# Altium footprint library Mount_Antenna.PcbLib: 22 footprints (part 1 of 2)
Each footprint in its own frame and in the unit in brackets; x right, y up, seen from the top. Pads: shape width x height; smd on the part's side, far side on the other; paste and mask are expansions set on the pad; w line width, h text height; cw(c..) or ccw(c..) is an arc to the next point about the centre after c.
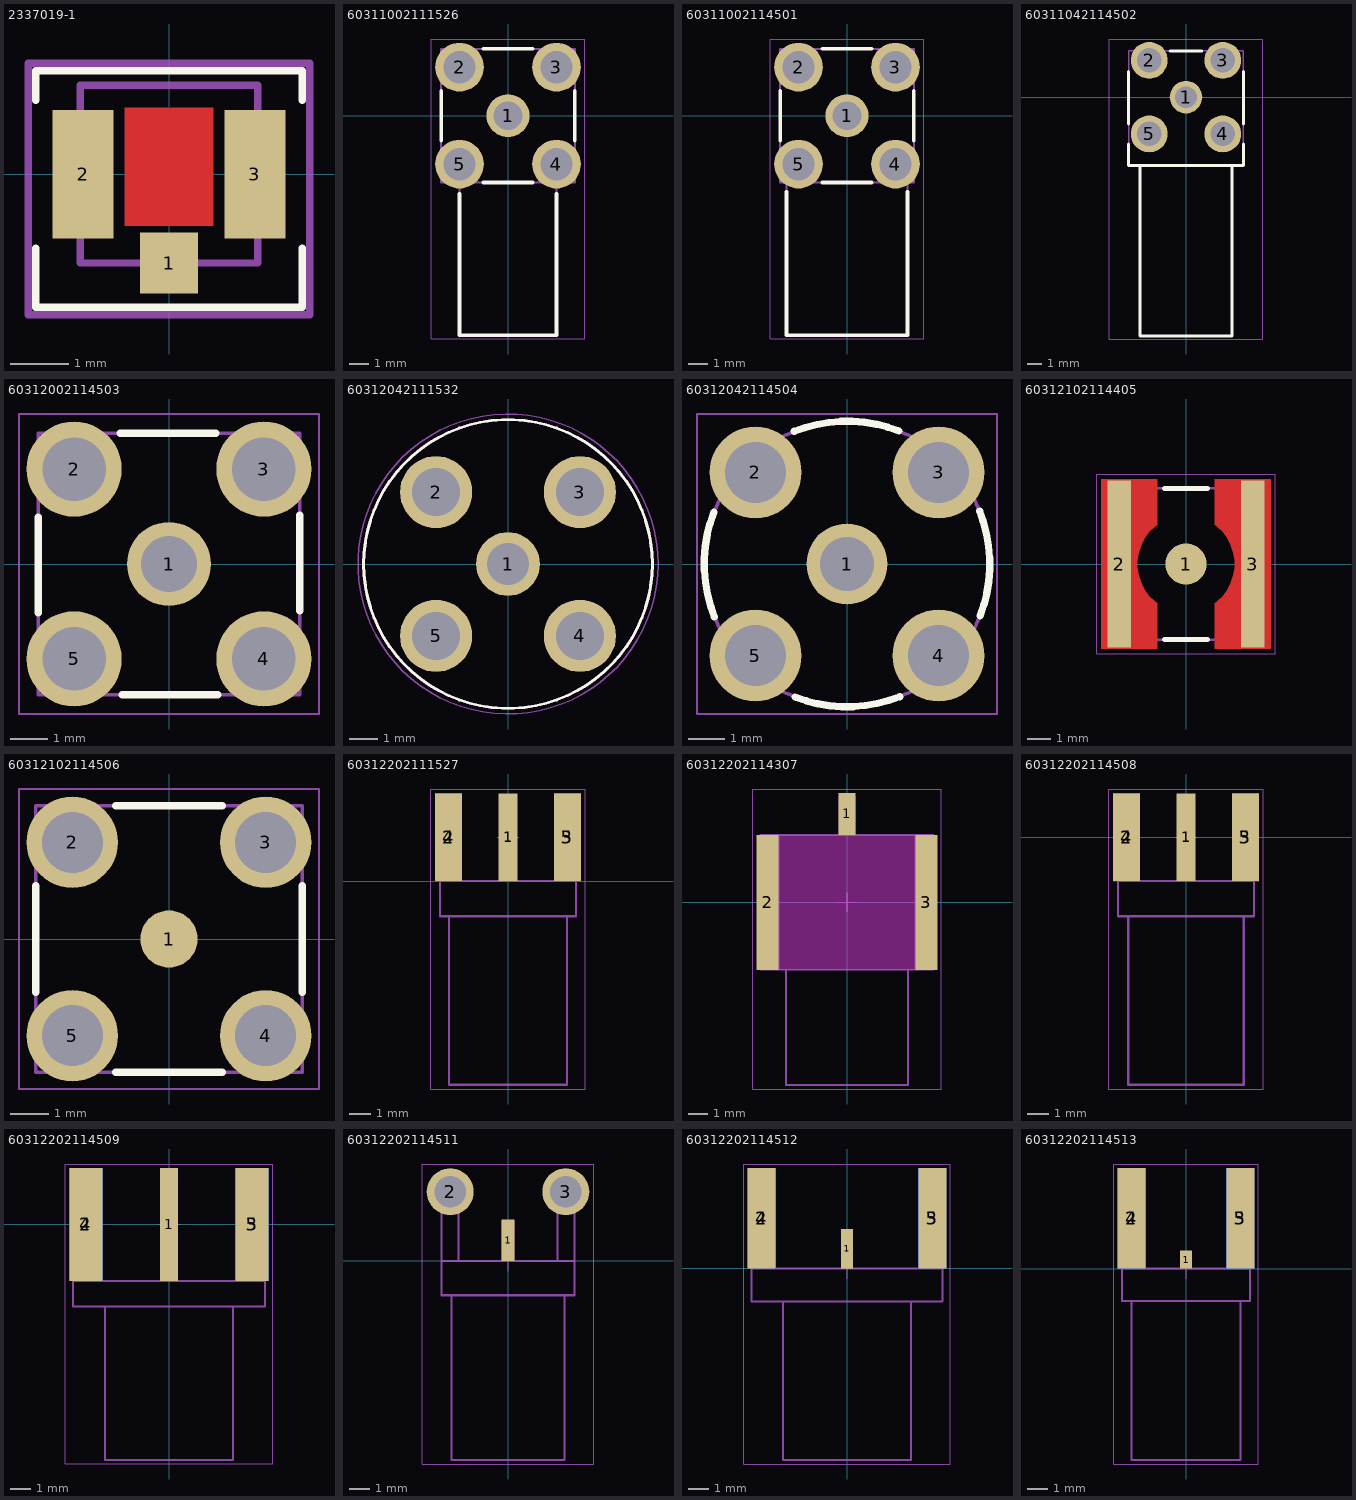
[diagram p0: the footprints below, top view; thin cyan lines are the x and y axes]

## 2337019-1 [mm]
pads (3):
  rect 1x1.05 smd: 1(0,-1.525)
  rect 1.05x2.2 smd: 2(-1.475,0) 3(1.475,0)
Top Layer:
  pour cut-out: -0.762,1.143 0.762,1.143 0.762,-0.889 -0.762,-0.889
Top Overlay:
  lines w0.127: -2.286,-1.27 -2.286,-2.286 2.286,-2.286 2.286,-1.27 ; -2.286,1.27 -2.286,1.778 2.286,1.778 2.286,1.27
Mechanical 13:
  lines w0.127: -1.524,-1.524 1.524,-1.524 1.524,1.524 -1.524,1.524 -1.524,-1.524
Mechanical 15:
  lines w0.127: -2.413,-2.413 -2.413,1.905 2.413,1.905 2.413,-2.413 -2.413,-2.413
3D body "2337019-1.stp": height 1.25, standoff 0, extent -1.515,-1.537 1.485,1.563

## 60311002111526 [mm] "SMA PCB THT Jack"
height 9.86
pads (5):
  round 2.25 hole 1.5: 1(0,0)
  round 2.55 hole 1.7: 2(-2.54,2.54) 3(2.54,2.54) 4(2.54,-2.54) 5(-2.54,-2.54)
Top Overlay:
  lines w0.2: -3.5,-1.3 -3.5,1.3 ; -2.54,-4.1 -2.54,-11.5 2.54,-11.5 2.54,-4.1 ; -1.3,-3.5 1.3,-3.5 ; -1.3,3.5 1.3,3.5 ; 3.5,-1.3 3.5,1.3
Mechanical 13:
  lines w0.1: -2.54,-3.5 -2.54,-11.5 2.54,-11.5 2.54,-3.5 ; -3.5,-3.5 -3.5,3.5 3.5,3.5 3.5,-3.5 -3.5,-3.5
Mechanical 15:
  lines w0.05: -0.5,0 0.5,0 ; 0,-0.5 0,0.5 ; -4.015,-11.7 4.015,-11.7 4.015,4.015 -4.015,4.015 -4.015,-11.7
3D body "60311002111526.stp": height 9.86, standoff -3.94, extent -3.5,-11.5 3.5,3.5

## 60311002114501 [mm] "SMA PCB THT Jack Right Angle"
height 9.66
pads (5):
  round 2.25 hole 1.5: 1(0,0)
  round 2.55 hole 1.7: 2(-2.54,2.54) 3(2.54,2.54) 4(2.54,-2.54) 5(-2.54,-2.54)
Top Overlay:
  lines w0.2: -3.5,-1.3 -3.5,1.3 ; -3.175,-4 -3.175,-11.5 3.175,-11.5 3.175,-4 ; -1.3,-3.5 1.3,-3.5 ; -1.3,3.5 1.3,3.5 ; 3.5,-1.3 3.5,1.3
Mechanical 13:
  lines w0.1: -3.175,-3.5 -3.175,-11.5 3.175,-11.5 3.175,-3.5 ; -3.5,-3.5 -3.5,3.5 3.5,3.5 3.5,-3.5 -3.5,-3.5
Mechanical 15:
  lines w0.05: -0.5,0 0.5,0 ; 0,-0.5 0,0.5 ; -4.015,-11.7 4.015,-11.7 4.015,4.015 -4.015,4.015 -4.015,-11.7
3D body "60311002114501.stp": height 9.66, standoff -3.94, extent -3.5,-11.502 3.5,3.5

## 60311042114502 [mm] "SMA PCB THT Jack Right Angle  Rear Mount Bulkhead"
height 10.46
pads (5):
  round 2.25 hole 1.5: 1(0,0)
  round 2.55 hole 1.7: 2(-2.54,2.54) 3(2.54,2.54) 4(2.54,-2.54) 5(-2.54,-2.54)
Top Overlay:
  lines w0.2: -3.96,-3.23 -3.96,-4.73 3.96,-4.73 3.96,-3.23 ; -3.96,-1.85 -3.96,1.77 ; -3.175,-4.73 -3.175,-16.5 3.175,-16.5 3.175,-4.73 ; -1.11,3.19 1.09,3.19 ; 3.96,-1.85 3.96,1.77
Mechanical 13:
  lines w0.1: -3.175,-4.73 -3.175,-16.5 3.175,-16.5 3.175,-4.73 ; -3.96,-4.73 3.96,-4.73 3.96,3.19 -3.96,3.19 -3.96,-4.73
Mechanical 15:
  lines w0.05: -0.5,0 0.5,0 ; 0,-0.5 0,0.5 ; -5.3,-16.7 -5.3,4.015 5.3,4.015 5.3,-16.7 -5.3,-16.7
3D body "60311042114502.stp": height 12.16, standoff -3.94, extent -5.1,-16.5 5.1,3.19

## 60312002114503 [mm] "SMA PCB THT Jack Straight"
height 9.56
pads (5):
  round 2.25 hole 1.5: 1(0,0)
  round 2.55 hole 1.7: 2(-2.54,2.54) 3(2.54,2.54) 4(2.54,-2.54) 5(-2.54,-2.54)
Top Overlay:
  lines w0.2: -3.5,-1.3 -3.5,1.25 ; -1.3,3.5 1.25,3.5 ; -1.25,-3.5 1.3,-3.5 ; 3.5,-1.25 3.5,1.3
Mechanical 13:
  lines w0.1: -3.5,-3.5 -3.5,3.5 3.5,3.5 3.5,-3.5 -3.5,-3.5
Mechanical 15:
  lines w0.05: -0.5,0 0.5,0 ; 0,-0.5 0,0.5 ; -4.015,-4.015 4.015,-4.015 4.015,4.015 -4.015,4.015 -4.015,-4.015
3D body "60312002114503.stp": height 9.56, standoff -3.94, extent -3.5,-3.5 3.5,3.5

## 60312042111532 [mm] "SMA PCB THT Jack"
height 12.65
pads (5):
  round 2.25 hole 1.5: 1(0,0)
  round 2.55 hole 1.7: 2(-2.54,2.54) 3(2.54,2.54) 4(2.54,-2.54) 5(-2.54,-2.54)
Top Overlay:
  circle w0.1: c0,0 r5.1
Mechanical 13:
  circle w0.1: c0,0 r5.1
Mechanical 15:
  circle w0.05: c0,0 r5.3
  lines w0.05: -0.5,0 0.5,0 ; 0,-0.5 0,0.5
3D body "60312042111532.stp": height 12.64, standoff -3.95, extent -7.212,-7.212 7.212,7.212

## 60312042114504 [mm] "SMA PCB THT Jack Straight Rear  Mount Bulkhead"
height 20.83
pads (5):
  round 2.25 hole 1.5: 1(0,0)
  round 2.55 hole 1.7: 2(-2.54,2.54) 3(2.54,2.54) 4(2.54,-2.54) 5(-2.54,-2.54)
Top Overlay:
  lines w0.2: -3.687,1.445 ccw(c0,0) -3.68,-1.462 ; -1.462,3.68 cw(c0,0) 1.445,3.687 ; -1.445,-3.687 ccw(c0,0) 1.462,-3.68 ; 3.68,1.462 cw(c0,0) 3.687,-1.445
Mechanical 13:
  circle w0.1: c0,0 r3.96
Mechanical 15:
  lines w0.05: -0.5,0 0.5,0 ; 0,-0.5 0,0.5 ; -4.16,-4.16 4.16,-4.16 4.16,4.16 -4.16,4.16 -4.16,-4.16
3D body "60312042114504.stp": height 20.87, standoff -3.9, extent -5.598,-5.598 5.6,5.6

## 60312102114405 [mm] "SMA PCB SMT Jack Straight"
height 8.84
pads (3):
  round 1.73 smd: 1(0,0)
  rect 1x7 smd: 2(-2.8,0) 3(2.8,0)
Top Layer:
  region: -3.555,-3.56 -1.205,-3.56 -1.205,-1.652 -1.331,-1.553 -1.557,-1.326 -1.745,-1.067 -1.89,-0.781 -1.989,-0.477 -2.039,-0.16 -2.039,0.16 -1.989,0.477 -1.89,0.781 -1.745,1.067 -1.557,1.326 -1.331,1.553 -1.205,1.652 -1.205,3.56 -3.555,3.56
  region: 3.555,-3.56 1.205,-3.56 1.205,-1.652 1.331,-1.553 1.557,-1.326 1.745,-1.067 1.89,-0.781 1.989,-0.477 2.039,-0.16 2.039,0.16 1.989,0.477 1.89,0.781 1.745,1.067 1.557,1.326 1.331,1.553 1.205,1.652 1.205,3.56 3.555,3.56
Top Overlay:
  lines w0.2: -0.9,-3.175 0.9,-3.175 ; -0.9,3.175 0.9,3.175
Mechanical 13:
  lines w0.1: -3.175,-3.175 -3.175,3.175 3.175,3.175 3.175,-3.175 -3.175,-3.175
Mechanical 15:
  lines w0.05: -0.5,0 0.5,0 ; 0,-0.5 0,0.5 ; -3.755,-3.76 -3.755,3.76 3.755,3.76 3.755,-3.76 -3.755,-3.76
3D body "60312102114405.stp": height 8.84, standoff 0, extent -3.175,-3.175 3.175,3.175

## 60312102114506 [mm] "SMA PCB SMT Jack Straight with  THT Grounding Pins"
height 9.56
pads (5):
  round 1.5 smd: 1(0,0)
  round 2.4 hole 1.6: 2(-2.54,2.54) 3(2.54,2.54) 4(2.54,-2.54) 5(-2.54,-2.54)
Top Overlay:
  lines w0.2: -3.5,-1.4 -3.5,1.4 ; -1.4,-3.5 1.4,-3.5 ; -1.4,3.5 1.4,3.5 ; 3.5,-1.4 3.5,1.4
Mechanical 13:
  lines w0.1: -3.5,-3.5 3.5,-3.5 3.5,3.5 -3.5,3.5 -3.5,-3.5
Mechanical 15:
  lines w0.05: -0.5,0 0.5,0 ; 0,-0.5 0,0.5 ; -3.94,-3.94 -3.94,3.94 3.94,3.94 3.94,-3.94 -3.94,-3.94
3D body "60312102114506.stp": height 9.56, standoff -3.94, extent -3.5,-3.5 3.5,3.5

## 60312202111527 [mm] "SMA PCB End Launch  Jack"
height 3.175
pads (5):
  rect 0.9x4.1 smd: 1(0,2.05)
  rect 1.25x4.1 smd: 2(-2.775,2.05) 3(2.775,2.05)
  rect 1.25x4.1 smd far side: 4(-2.775,2.05) 5(2.775,2.05)
Mechanical 2:
  lines w0.1: -3.175,0 3.175,0
  text "PCB END" at -2.2,-1.25 h0.76
Mechanical 13:
  lines w0.1: -2.75,-1.65 -2.75,-9.52 2.75,-9.52 2.75,-1.65 ; -3.175,-1.65 3.175,-1.65 3.175,3.81 2.365,3.81 2.365,0 0.38,0 0.38,3.81 -0.38,3.81 -0.38,0 -2.365,0 -2.365,3.81 -3.175,3.81 -3.175,-1.65
Mechanical 15:
  lines w0.05: -0.5,2.05 0.5,2.05 ; 0,1.55 0,2.55 ; -3.6,-9.72 3.6,-9.72 3.6,4.3 -3.6,4.3 -3.6,-9.72
3D body "60312202111527.stp": height 3.55, standoff -2.8, extent -3.175,-9.52 3.175,3.81

## 60312202114307 [mm] "SMA PCB End Launch Jack SMT  Edge Card for 1.6mm PCB"
height 4
pads (3):
  rect 0.9x2.2 smd: 1(0,4.6)
  rect 1.15x7 smd: 2(-4.125,0) 3(4.125,0)
Keep-Out Layer:
  board cut-out: -3.55,-3.5 -3.55,3.5 3.55,3.5 3.55,-3.5
Mechanical 2:
  lines w0.1: -3.55,-3.5 3.55,-3.5 3.55,3.5 -3.55,3.5 -3.55,-3.5
  text "PCB Thickness 1.6m max." at -4,-10.2 h0.8
  text "PCB Cutout Area" at -2.7,-0.2 h0.8
  text "PCB End" at -1.7,-4.2 h0.8
Mechanical 13:
  lines w0.1: -4.5,-3.5 -4.5,3.5 -0.38,3.5 -0.38,5.5 0.38,5.5 0.38,3.5 4.5,3.5 4.5,-3.5 3.175,-3.5 3.175,-9.5 -3.175,-9.5 -3.175,-3.5 -4.5,-3.5
Mechanical 15:
  lines w0.05: -0.5,0 0.5,0 ; 0,-0.5 0,0.5 ; -4.9,-9.7 4.9,-9.7 4.9,5.9 -4.9,5.9 -4.9,-9.7
3D body "60312202114307.stp": height 4, standoff -3, extent -4.5,-9.5 4.5,5.5

## 60312202114508 [mm] "SMA PCB End Launch Jack Round  Post for 1.1mm PCB"
height 6.35
pads (5):
  rect 0.9x4.1 smd: 1(0,0)
  rect 1.25x4.1 smd: 2(-2.775,0) 3(2.775,0)
  rect 1.25x4.1 smd far side: 4(-2.775,0) 5(2.775,0)
Mechanical 2:
  lines w0.1: -3.175,-2.05 3.175,-2.05
  text "PCB Thickness 1.1mm" at -3.4,-12.4 h0.8
  text "PCB End" at -1.5,-2.8 h0.8
Mechanical 13:
  lines w0.1: -2.7,-3.7 -2.7,-11.57 2.7,-11.57 2.7,-3.7 ; -3.175,-3.7 -3.175,1.76 -2.365,1.76 -2.365,-2.05 -0.38,-2.05 -0.38,1.76 0.38,1.76 0.38,-2.05 2.365,-2.05 2.365,1.76 3.175,1.76 3.175,-3.7 -3.175,-3.7
Mechanical 15:
  lines w0.05: -0.5,0 0.5,0 ; 0,-0.5 0,0.5 ; -3.6,-11.77 -3.6,2.25 3.6,2.25 3.6,-11.77 -3.6,-11.77
3D body "60312202114508.stp": height 3.57, standoff -2.78, extent -3.175,-11.57 3.175,1.76

## 60312202114509 [mm] "SMA PCB End Launch Jack Round  Post for 1.6mm PCB"
height 7.92
pads (5):
  rect 0.9x5.6 smd: 1(0,0)
  rect 1.65x5.6 smd: 2(-4.125,0) 3(4.125,0)
  rect 1.65x5.6 smd far side: 4(-4.125,0) 5(4.125,0)
Mechanical 2:
  lines w0.1: -4.76,-2.8 4.76,-2.8
  text "PCB End" at -1.5,-3.5 h0.8
  text "PCB Thickness 1.6mm" at -3.4,-12.4 h0.8
Mechanical 13:
  lines w0.1: -3.175,-4.07 -3.175,-11.69 3.175,-11.69 3.175,-4.07 ; 3.49,2.58 3.49,-2.8 0.38,-2.8 0.38,2.58 -0.38,2.58 -0.38,-2.8 -3.49,-2.8 -3.49,2.58 -4.76,2.58 -4.76,-4.07 4.76,-4.07 4.76,2.58 ; 3.49,2.58 4.76,2.58
Mechanical 15:
  lines w0.05: -0.5,0 0.5,0 ; 0,-0.5 0,0.5 ; -5.15,-11.89 5.15,-11.89 5.15,3 -5.15,3 -5.15,-11.89
3D body "60312202114509.stp": height 4.36, standoff -3.56, extent -4.76,-11.69 4.76,2.58

## 60312202114511 [mm] "SMA PCB End Launch Jack Flat Tab  with THT Grounding Pins for 2.8mm  Max. PCB"
height 6.35
pads (3):
  rect 0.61x1.97 smd: 1(0,0.985)
  round 2.25 hole 1.52: 2(-2.77,3.31) 3(2.77,3.31)
Mechanical 2:
  lines w0.1: -3.175,0 3.175,0
  text "PCB End" at -1.4,-0.7 h0.8
  text "PCB Thickness 2.8mm max." at -4.2,-10.3 h0.8
Mechanical 13:
  lines w0.1: -2.7,-1.65 -2.7,-9.53 2.7,-9.53 2.7,-1.65 ; -3.175,-1.65 3.175,-1.65 3.175,3.81 2.365,3.81 2.365,0 0.255,0 0.255,1.9 -0.255,1.9 -0.255,0 -2.365,0 -2.365,3.81 -3.175,3.81 -3.175,-1.65
Mechanical 15:
  lines w0.05: -0.5,0 0.5,0 ; 0,-0.5 0,0.5 ; -4.095,-9.73 4.095,-9.73 4.095,4.635 -4.095,4.635 -4.095,-9.73
3D body "60312202114511.stp": height 3.32, standoff -3.03, extent -3.175,-9.53 3.175,3.81

## 60312202114512 [mm] "SMA PCB End Launch Jack Flat  Tab for 1.1mm PCB"
height 7.92
pads (5):
  rect 0.61x1.97 smd: 1(0,0.985)
  rect 1.4x5 smd: 2(-4.25,2.5) 3(4.25,2.5)
  rect 1.4x5 smd far side: 4(-4.25,2.5) 5(4.25,2.5)
Mechanical 2:
  lines w0.1: -4.76,0 4.76,0
  text "PCB End" at -1.5,-0.7 h0.8
  text "PCB Thickness 1.1mm" at -3.7,-10.2 h0.8
Mechanical 13:
  lines w0.1: -3.175,-1.64 -3.175,-9.53 3.175,-9.53 3.175,-1.64 ; -4.76,-1.64 -4.76,4.76 -3.74,4.76 -3.74,0 -0.255,0 -0.255,1.9 0.255,1.9 0.255,0 3.74,0 3.74,4.76 4.76,4.76 4.76,-1.64 -4.76,-1.64
Mechanical 15:
  lines w0.05: -0.5,0 0.5,0 ; 0,-0.5 0,0.5 ; -5.15,-9.73 -5.15,5.2 5.15,5.2 5.15,-9.73 -5.15,-9.73
3D body "60312202114512.stp": height 4.11, standoff -3.82, extent -4.76,-9.53 4.76,4.76

## 60312202114513 [mm] "SMA PCB End Launch Jack Flat Tab  6.35SQ Flange for 1.6mm PCB"
height 6.35
pads (5):
  rect 0.61x0.9 smd: 1(0,0.45)
  rect 1.4x5 smd: 2(-2.7,2.5) 3(2.7,2.5)
  rect 1.4x5 smd far side: 4(-2.7,2.5) 5(2.7,2.5)
Mechanical 2:
  lines w0.1: -3.175,0 3.175,0
  text "PCB Thickness 1.6mm" at -3.6,-10.2 h0.8
  text "PCB End" at -1.4,-0.7 h0.8
Mechanical 13:
  lines w0.1: -2.7,-1.6 -2.7,-9.5 2.7,-9.5 2.7,-1.6 ; -3.175,-1.6 -3.175,4.7 -2.175,4.7 -2.175,0 -0.255,0 -0.255,0.8 0.255,0.8 0.255,0 2.175,0 2.175,4.7 3.175,4.7 3.175,-1.6 -3.175,-1.6
Mechanical 15:
  lines w0.05: -0.5,0 0.5,0 ; 0,-0.5 0,0.5 ; -3.6,-9.7 -3.6,5.2 3.6,5.2 3.6,-9.7 -3.6,-9.7
3D body "60312202114513.stp": height 3.34, standoff -3.01, extent -3.175,-9.5 3.175,4.7